# Altium schematic symbol library BNO055.SchLib: 1 symbol
Pins are listed as number, name and electrical type; pins without a type are passive.

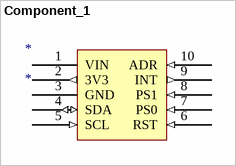
[diagram p0: symbol Component_1]

## Component_1
designator *
footprint BNO055_MOD
pins: 1 VIN (power), 2 3V3 (out), 3 GND (power), 4 SDA (io), 5 SCL (in), 6 RST (in), 7 PS0 (in), 8 PS1 (in), 9 INT (out), 10 ADR (in)